# Altium schematic symbol library ICs.SchLib: 16 symbols
Pins are listed as number, name and electrical type; pins without a type are passive.

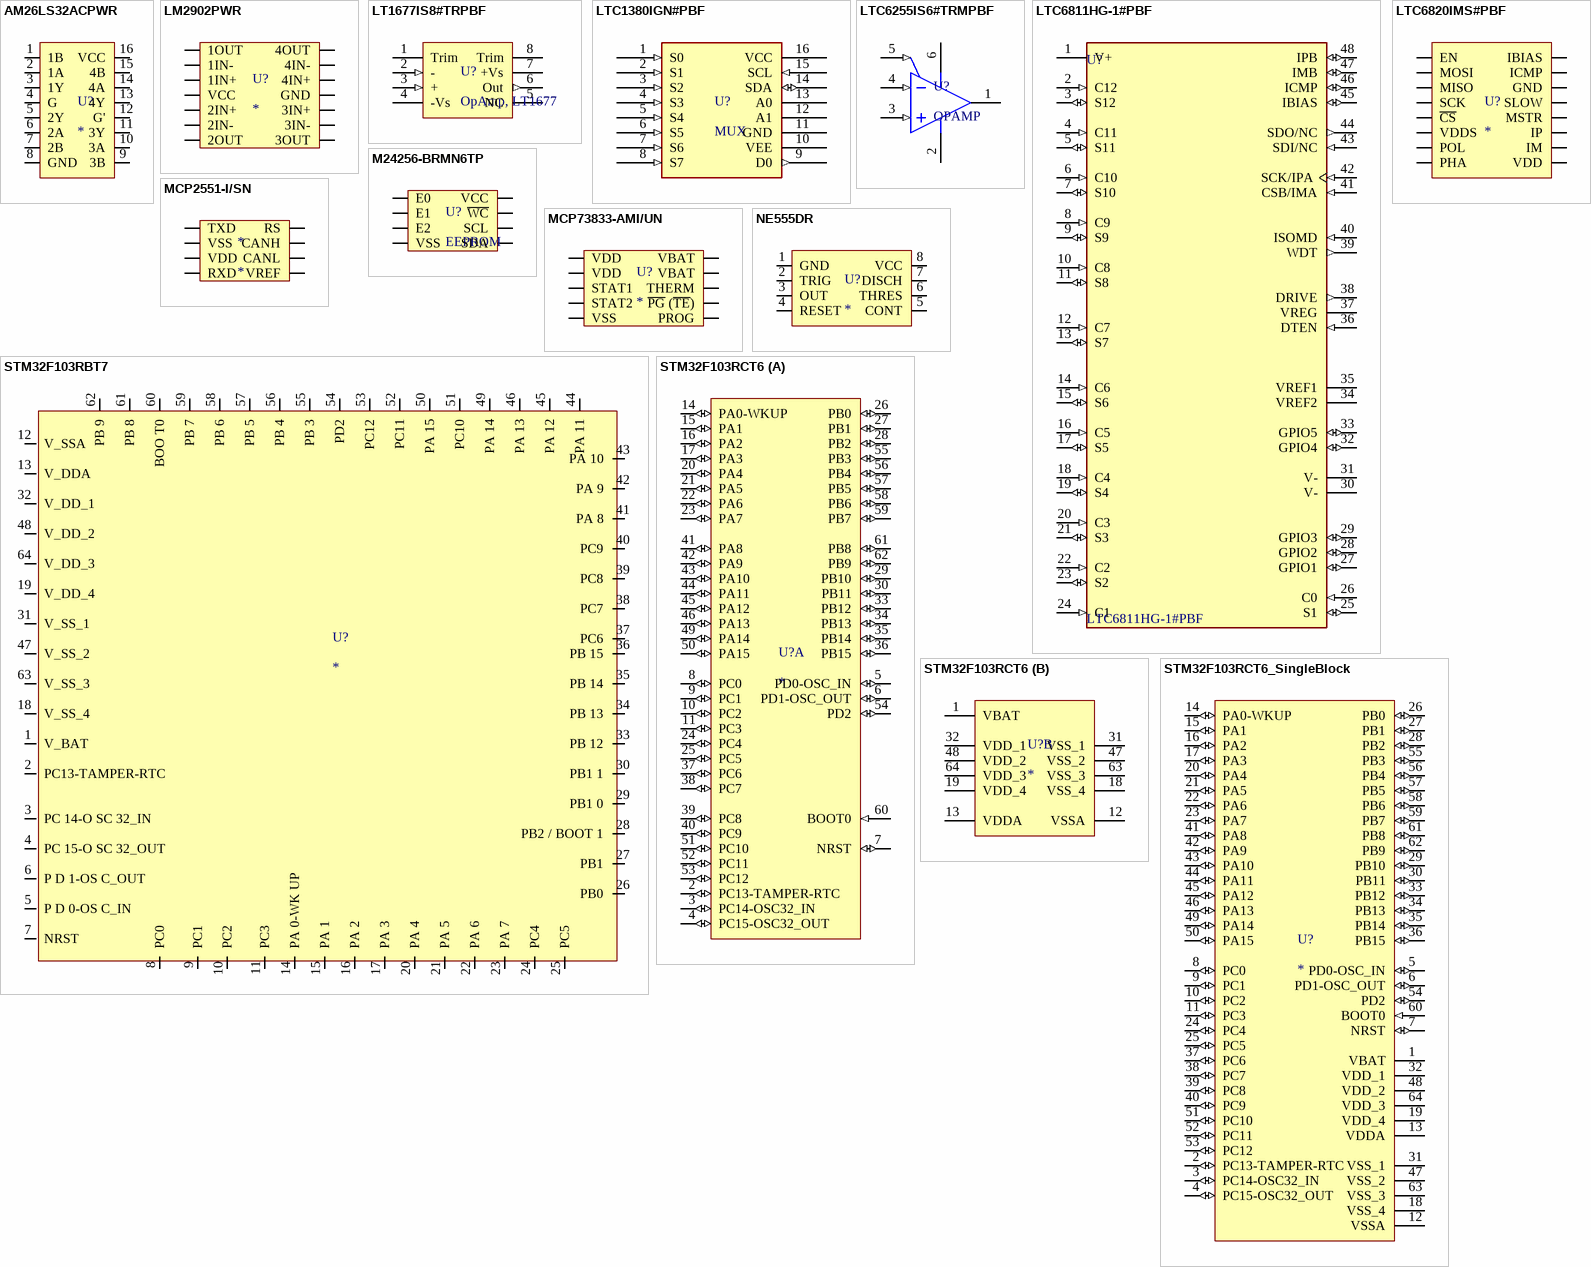
[diagram p0: symbols AM26LS32ACPWR to STM32F103RCT6_SingleBlock]

## AM26LS32ACPWR
designator U?
IC QUAD DIFF LINE RCVR 16-TSSOP; Manufacturer: Texas Instruments; Manufacturer Part Number: AM26LS32ACPWR; Max Supply Current: 70mA; Logic Function: Receiver; ESD Protection: No; Operating Supply Voltage: 5V; Number of Receivers: 4; Data Rate: 10Mbps; Min Supply Voltage: 4.75V; Max Supply Voltage: 5.25V; Receiver Hysteresis: 50mV; Supplier 1: Digi-Key; Supplier Part Number 1: 296-38861-1-ND; RoHS: Yes; Category: RS-232 / RS-422 / RS-485 Interface ICs; Stock 1: 1637; Case/Package: TSSOP; Number of Pins: 16; Weight: 0.002183oz; Contact Plating: Gold; Min Operating Temperature: 0°C; Max Operating Temperature: 70°C; Packaging: Tape and Reel; Package Quantity: 2000; Operating Supply Current: 70mA; Nominal Supply Current: 70mA; Lead Free: Lead Free; ComponentLink1URL: https://datasheet.ciiva.com/1769/am26ls32a-1769923.pdf?src-supplier=Digi-Key; ComponentLink1Description: https://datasheet.ciiva.com/1769/am26ls32a-1769923.pdf?src-supplier=Digi-Key; ComponentLink2URL: https://datasheet.ciiva.com/14426/slls115e-14426506.pdf?src-supplier=Avnet; ComponentLink2Description: https://datasheet.ciiva.com/14426/slls115e-14426506.pdf?src-supplier=Avnet
footprint TSSOP-16
pins: 1 1B, 2 1A, 3 1Y, 4 G, 5 2Y, 6 2A, 7 2B, 8 GND, 9 3B, 10 3A, 11 3Y, 12 G', 13 4Y, 14 4A, 15 4B, 16 VCC

## LM2902PWR
designator U?
LM2902PWR Texas Instruments, Precision, Quad Op Amp, 1.2MHz, 5 ? 24 V, 14-Pin TSSOP; Output Current per Channel: 60mA; Slew Rate: 0.5V/µs; Max Supply Voltage: 26V; Min Dual Supply Voltage: 1.5V; Max Dual Supply Voltage: 13V; Voltage Gain: 100dB; Common Mode Rejection Ratio: 50dB; Number of Circuits: 4; Input Bias Current: 250nA; Input Offset Voltage (Vos): 7mV; Operating Supply Current: 1.4mA; Min Supply Voltage: 3V; Output Current: 30mA; Nominal Supply Current: 3mA; Dual Supply Voltage: 9V; Supplier 1: Digi-Key; Supplier Part Number 1: 296-6600-1-ND; Manufacturer: Texas Instruments; Manufacturer Part Number: LM2902PWR; RoHS: Yes; Category: Amplifiers - Op Amps, Buffer, Instrumentation; Stock 1: 11279; Mount: Surface Mount; Case/Package: TSSOP; Number of Pins: 14; Min Operating Temperature: -40°C; Max Operating Temperature: 125°C; Package Quantity: 1; Packaging: Tape and Reel; Gain Bandwidth Product: 1.2MHz; Number of Elements: 4; Unity Gain Bandwidth Product: 1.2MHz; Number of Channels: 4; Operating Supply Voltage: 13V; Bandwidth: 1.2MHz; Number of Amplifiers: 4; Length: 5mm; Height: 1.15mm; Width: 4.4mm; Radiation Hardening: No; Lead Free: Lead Free; REACH SVHC: No SVHC; ComponentLink1URL: https://datasheet.ciiva.com/1795/lm324-1795520.pdf?src-supplier=Digi-Key; ComponentLink1Description: https://datasheet.ciiva.com/1795/lm324-1795520.pdf?src-supplier=Digi-Key; ComponentLink2URL: https://datasheet.ciiva.com/15129/getdatasheetpartid-49902-15129968.pdf?src-supplier=Verical; ComponentLink2Description: https://datasheet.ciiva.com/15129/getdatasheetpartid-49902-15129968.pdf?src-supplier=Verical; ComponentLink3URL: https://datasheet.ciiva.com/34302/1343700-34302236.pdf?src-supplier=Jameco; ComponentLink3Description: https://datasheet.ciiva.com/34302/1343700-34302236.pdf?src-supplier=Jameco; ComponentLink4URL: https://datasheet.ciiva.com/2974/lm324ka-2974976.pdf?src-supplier=Avnet; ComponentLink4Description: https://datasheet.ciiva.com/2974/lm324ka-2974976.pdf?src-supplier=Avnet; ComponentLink5URL: https://datasheet.ciiva.com/1795/lm224-1795585.pdf?src-supplier=Digi-Key; ComponentLink5Description: https://datasheet.ciiva.com/1795/lm224-1795585.pdf?src-supplier=Digi-Key; ComponentLink6URL: https://datasheet.ciiva.com/22657/1877076-22657189.pdf?src-supplier=Element14; ComponentLink6Description: https://datasheet.ciiva.com/22657/1877076-22657189.pdf?src-supplier=Element14; ComponentLink7URL: https://datasheet.ciiva.com/46382/1877076-46382413.pdf?src-supplier=Element14; ComponentLink7Description: https://datasheet.ciiva.com/46382/1877076-46382413.pdf?src-supplier=Element14; ComponentLink8URL: https://datasheet.ciiva.com/1795/lm224-1795583.pdf?src-supplier=Digi-Key; ComponentLink8Description: https://datasheet.ciiva.com/1795/lm224-1795583.pdf?src-supplier=Digi-Key
footprint TSSOP-14
pins: 1 1OUT, 2 1IN-, 3 1IN+, 4 VCC, 5 2IN+, 6 2IN-, 7 2OUT, 8 3OUT, 9 3IN-, 10 3IN+, 11 GND, 12 4IN+, 13 4IN-, 14 4OUT

## LT1677IS8#TRPBF
designator U?, comment OpAmp, LT1677
IC OPAMP GP 7.2MHZ RRO 8SO; Manufacturer: Analog Devices / Linear Technology; Manufacturer Part Number: LT1677IS8#TRPBF; Common Mode Rejection Ratio: 60dB; Min Dual Supply Voltage: 1.5V; Max Dual Supply Voltage: 18V; Slew Rate: 2.5V/µs; Max Supply Voltage: 44V; Min Supply Voltage: 2.5V; Number of Circuits: 1; Input Bias Current: 2nA; Input Offset Voltage (Vos): 60uV; Operating Supply Current: 2.75mA; Output Current per Channel: 35mA; Voltage Gain: 133.98dB; Power Supply Rejection Ratio (PSRR): 108dB; Supplier 1: Digi-Key; Supplier Part Number 1: LT1677IS8#TRPBFCT-ND; Stock 1: 4539; Pricing 1: 1 = 5.74000, 25 = 5.12560 (USD); RoHS: Yes; Case/Package: SOIC; Number of Pins: 8; Min Operating Temperature: -40°C; Max Operating Temperature: 85°C; Package Quantity: 2500; Unity Gain Bandwidth Product: 7.2MHz; Nominal Gain Bandwidth Product: 7.2MHz; Packaging: Tape and Reel; Gain Bandwidth Product: 7.2MHz; Number of Elements: 1; Number of Channels: 1; Lead Free: Lead Free; ComponentLink1URL: http://www.linear.com/docs/2102?src-supplier=Digi-Key; ComponentLink1Description: http://www.linear.com/docs/2102?src-supplier=Digi-Key; ComponentLink2URL: http://datasheet.iiic.cc/linear_technology/LT1677IS8_TRPBF.pdf?src-supplier=IIIC; ComponentLink2Description: http://datasheet.iiic.cc/linear_technology/LT1677IS8_TRPBF.pdf?src-supplier=IIIC; Category: Integrated Circuits (ICs)
footprint LT1677IS8#TRPBF (IC OPAMP GP 7.2MHZ RRO 8SO)
pins: 1 Trim, 2 - (in), 3 + (in), 4 -Vs (power), 5 NC, 6 Out (out), 7 +Vs (power), 8 Trim

## LTC1380IGN#PBF
designator U?, comment MUX
IC MULTIPLEXER 8X1 16SSOP 1 Circuit IC Switch 8:1 70Ohm 16-SSOP; Manufacturer_Part_Number: LTC1380IGN#PBF; Vendor: Linear Technology; Built_By: EMA_UL_Team; Copyright: Copyright (C) 2018 Accelerated Designs. All rights reserved; RefDes: RefDes; Type: DEV; Value: Value
footprint SSOP-16_GN
pins: 1 S0 (in), 2 S1 (in), 3 S2 (in), 4 S3 (in), 5 S4 (in), 6 S5 (in), 7 S6 (in), 8 S7 (in), 9 D0 (out), 10 VEE (power), 11 GND (power), 12 A1, 13 A0, 14 SDA (io), 15 SCL (in), 16 VCC (power)

## LTC6255IS6#TRMPBF
designator U?, comment OPAMP
IC OPAMP GP 6.5MHZ RRO TSOT23-6; Manufacturer: Analog Devices / Linear Technology; Manufacturer Part Number: LTC6255IS6#TRMPBF; Input Offset Voltage (Vos): 100uV; Max Supply Voltage: 5.25V; Min Supply Voltage: 1.8V; Number of Channels: 1; Operating Supply Current: 65uA; Slew Rate: 1.8V/µs; Input Bias Current: 5nA; Output Current per Channel: 35mA; Power Supply Rejection Ratio (PSRR): 82dB; Common Mode Rejection Ratio: 75dB; Voltage Gain: 106.02dB; -3db Bandwidth: 4.5MHz; Supplier 1: Digi-Key; Supplier Part Number 1: LTC6255IS6#TRMPBFCT-ND; RoHS: Yes; Category: Amplifiers - Op Amps, Buffer, Instrumentation; Stock 1: 9151; Case/Package: SOT-23-6; Number of Pins: 6; Min Operating Temperature: -40°C; Max Operating Temperature: 85°C; Packaging: Tape and Reel; Number of Circuits: 1; Gain Bandwidth Product: 6.5MHz; Package Quantity: 500; Number of Elements: 1; Nominal Gain Bandwidth Product: 6.5MHz; Unity Gain Bandwidth Product: 6.5MHz; Lead Free: Lead Free; ComponentLink1URL: https://datasheet.ciiva.com/18622/29492-18622463.pdf?src-supplier=Digi-Key; ComponentLink1Description: https://datasheet.ciiva.com/18622/29492-18622463.pdf?src-supplier=Digi-Key
footprint TSOT23-6
pins: 1 OUT (hiz), 2 V- (power), 3 +IN (in), 4 -IN (in), 5 ~{SHDN} (in), 6 V+ (power)

## LTC6811HG-1#PBF
designator U?
Battery Battery Monitor IC Multi-Chemistry 48-SSOP; MF: Linear Technology/Analog; Package: FSOP-48 Analog Devices; Digi-Key_Part_Number: LTC6811HG-1#PBF-ND; MP: LTC6811HG-1#PBF; SnapEDA_Link: https://www.snapeda.com/parts/LTC6811HG-1%23PBF/Analog%20Devices/view-part/2761924/?ref=snap; Digi-Key_Purchase_URL: https://www.digikey.com/product-detail/en/linear-technology-analog-devices/LTC6811HG-1-PBF/LTC6811HG-1-PBF-ND/6235369?utm_source=snapeda&utm_medium=aggregator&utm_campaign=symbol; Value: *
footprint 48-SSOP
pins: 1 V+ (power), 2 C12 (in), 3 S12 (io), 4 C11 (in), 5 S11 (io), 6 C10 (in), 7 S10 (io), 8 C9 (in), 9 S9 (io), 10 C8 (in), 11 S8 (io), 12 C7 (in), 13 S7 (io), 14 C6 (in), 15 S6 (io), 16 C5 (in), 17 S5 (io), 18 C4 (in), 19 S4 (io), 20 C3 (in), 21 S3 (io), 22 C2 (in), 23 S2 (io), 24 C1 (in), 25 S1 (io), 26 C0 (in), 27 GPIO1 (io), 28 GPIO2 (io), 29 GPIO3 (io), 30 V- (power), 31 V- (power), 32 GPIO4 (io), 33 GPIO5 (io), 34 VREF2 (power), 35 VREF1 (power), 36 DTEN (in), 37 VREG (power), 38 DRIVE (out), 39 WDT (out), 40 ISOMD (in), 41 CSB/IMA (in), 42 SCK/IPA (in), 43 SDI/NC (in), 44 SDO/NC (out), 45 IBIAS (io), 46 ICMP (io), 47 IMB (io), 48 IPB (io)

## LTC6820IMS#PBF
designator U?
IC COMM INTERFACE ISOSPI 16MSOP
footprint 16-MSOP
pins: 1 EN, 2 MOSI, 3 MISO, 4 SCK, 5 ~{CS}, 6 VDDS, 7 POL, 8 PHA, 9 VDD, 10 IM, 11 IP, 12 MSTR, 13 SLOW, 14 GND, 15 ICMP, 16 IBIAS

## M24256-BRMN6TP
designator U?, comment EEPROM
EEPROM Serial-I2C 256K-bit 32K x 8 2.5V/3.3V/5V 8-Pin SO N T/R
footprint 8-SOIC
pins: 1 E0, 2 E1, 3 E2, 4 VSS, 5 SDA, 6 SCL, 7 ~{WC}, 8 VCC

## MCP2551-I/SN
designator *
CAN TRANSCEIVER; Manufacturer: Microchip; Manufacturer Part Number: MCP2551-I/SN; Body Material: Steel; Number of Contacts: 9; Current Rating: 5A; Gender: Male; Connector Type: D-Sub,Plug,Signal; Voltage Rating: 125V; Pitch: 2.84mm; Max Supply Voltage: 5.5V; Min Supply Voltage: 2.7V; Interface: SPI; Max Frequency: 400kHz; Access Time: 900ns; Density: 256Kb; Operating Supply Voltage: 5V; Frequency: 1MHz; Nominal Supply Current: 2.5mA; Memory Type: EEPROM; Contact Resistance: 10mR; Voltage Rating (AC): 250V; Number of Circuits: 2; Insulation Resistance: 1GR; Glow Wire Compliant: Compliant; Row Spacing: 0.1inch; Frequency Stability: 30ppm; Load Capacitance: 18pF; ESR (Equivalent Series Resistance): 140R; Frequency Tolerance: 20ppm; Series Resistance: 500R; Supplier 1: Digi-Key; Supplier Part Number 1: MCP2551-I/SN-ND; RoHS: Yes; Category: Interface ICs; Stock 1: 3363; ComponentLink1URL: https://datasheet.ciiva.com/8084/jp011797-8084592.pdf?src-supplier=Avnet; ComponentLink1Description: https://datasheet.ciiva.com/8084/jp011797-8084592.pdf?src-supplier=Avnet; ComponentLink2URL: https://datasheet.ciiva.com/27056/2040583-27056423.pdf?src-supplier=Jameco; ComponentLink2Description: https://datasheet.ciiva.com/27056/2040583-27056423.pdf?src-supplier=Jameco; ComponentLink3URL: https://datasheet.ciiva.com/1495/21667f-1495089.pdf?src-supplier=Element14; ComponentLink3Description: https://datasheet.ciiva.com/1495/21667f-1495089.pdf?src-supplier=Element14; ComponentLink4URL: https://datasheet.ciiva.com/1700/21667f-1700023.pdf?src-supplier=Digi-Key; ComponentLink4Description: https://datasheet.ciiva.com/1700/21667f-1700023.pdf?src-supplier=Digi-Key; ComponentLink5URL: https://datasheet.ciiva.com/14152/eb644223-644224-e-14152540.pdf?src-supplier=Distrelec; ComponentLink5Description: https://datasheet.ciiva.com/14152/eb644223-644224-e-14152540.pdf?src-supplier=Distrelec; ComponentLink6URL: https://datasheet.ciiva.com/17649/jp011797-17649039.pdf?src-supplier=Avnet+Europe; ComponentLink6Description: https://datasheet.ciiva.com/17649/jp011797-17649039.pdf?src-supplier=Avnet+Europe; Supplier 2: Digi-Key; Supplier Part Number 2: 9209ME-ND; Stock 2: 10320; Mount: Through Hole; Contact Plating: Gold; Contact Material: Brass; Housing Material: Nylon; Color: Black; Material: Metal; Housing Color: Black; Min Operating Temperature: -50°C; Max Operating Temperature: 100°C; Package Quantity: 80; Packaging: Tray; Termination: Through Hole; Number of Rows: 2; Number of Positions: 9; Length: 30.8mm; Height: 9.93mm; Width: 12.6mm; REACH SVHC: No SVHC; Lead Free: Lead Free; Flammability Rating: UL94 V-0; ComponentLink7URL: https://datasheet.ciiva.com/655/171-yyy-113ryy1-655574.pdf?src-supplier=Digi-Key; ComponentLink7Description: https://datasheet.ciiva.com/655/171-yyy-113ryy1-655574.pdf?src-supplier=Digi-Key; ComponentLink8URL: https://datasheet.ciiva.com/5118/171-yyy-113ryy1-5118968.pdf?src-supplier=Mouser; ComponentLink8Description: https://datasheet.ciiva.com/5118/171-yyy-113ryy1-5118968.pdf?src-supplier=Mouser; ComponentLink9URL: https://datasheet.ciiva.com/16376/171-yyy-113ryy1-16376504.pdf?src-supplier=Future+Electronics; ComponentLink9Description: https://datasheet.ciiva.com/16376/171-yyy-113ryy1-16376504.pdf?src-supplier=Future+Electronics; Supplier 3: Digi-Key; Supplier Part Number 3: 732-618009231121-ND; Stock 3: 281; Orientation: Right Angle; Depth: 18.5mm; ComponentLink10URL: https://datasheet.ciiva.com/12669/6180xx231121-12669218.pdf?src-supplier=Mouser; ComponentLink10Description: https://datasheet.ciiva.com/12669/6180xx231121-12669218.pdf?src-supplier=Mouser; ComponentLink11URL: https://datasheet.ciiva.com/1426/1442189-1426428.pdf?src-supplier=Element14; ComponentLink11Description: https://datasheet.ciiva.com/1426/1442189-1426428.pdf?src-supplier=Element14; Supplier 4: Digi-Key; Supplier Part Number 4: 732-618009231221-ND; Stock 4: 49; ComponentLink12URL: https://datasheet.ciiva.com/12669/6180xx231221-12669204.pdf?src-supplier=Mouser; ComponentLink12Description: https://datasheet.ciiva.com/12669/6180xx231221-12669204.pdf?src-supplier=Mouser; ComponentLink13URL: https://datasheet.ciiva.com/25605/0900766b81191766-25605476.pdf?src-supplier=RSComponents; ComponentLink13Description: https://datasheet.ciiva.com/25605/0900766b81191766-25605476.pdf?src-supplier=RSComponents; ComponentLink14URL: https://datasheet.ciiva.com/1426/1442191-1426429.pdf?src-supplier=Element14; ComponentLink14Description: https://datasheet.ciiva.com/1426/1442191-1426429.pdf?src-supplier=Element14; Supplier 5: Digi-Key; Supplier Part Number 5: LTC6820IMS#PBF-ND; Stock 5: 4671; Case/Package: MSOP; Number of Pins: 16; ComponentLink15URL: https://datasheet.ciiva.com/22649/1730562-22649446.pdf?src-supplier=Element14; ComponentLink15Description: https://datasheet.ciiva.com/22649/1730562-22649446.pdf?src-supplier=Element14; ComponentLink16URL: https://datasheet.ciiva.com/22767/1730562-22767677.pdf?src-supplier=Farnell; ComponentLink16Description: https://datasheet.ciiva.com/22767/1730562-22767677.pdf?src-supplier=Farnell; Supplier 6: Digi-Key; Supplier Part Number 6: 497-6348-1-ND; Stock 6: 4627; Memory Size: 256Kb; Radiation Hardening: No; ComponentLink17URL: https://datasheet.ciiva.com/15123/getdatasheetpartid-309492-15123357.pdf?src-supplier=Verical; ComponentLink17Description: https://datasheet.ciiva.com/15123/getdatasheetpartid-309492-15123357.pdf?src-supplier=Verical; ComponentLink18URL: https://datasheet.ciiva.com/41455/001185584-da-01-en-ic-eepr-256kbi-m24256-brmn6tp-soic-8-stm-41455201.pdf?src-supplier=Conrad; ComponentLink18Description: https://datasheet.ciiva.com/41455/001185584-da-01-en-ic-eepr-256kbi-m24256-brmn6tp-soic-8-stm-41455201.pdf?src-supplier=Conrad; ComponentLink19URL: https://datasheet.ciiva.com/1905/cd00001891-1905179.pdf?src-supplier=Digi-Key; ComponentLink19Description: https://datasheet.ciiva.com/1905/cd00001891-1905179.pdf?src-supplier=Digi-Key; ComponentLink20URL: https://datasheet.ciiva.com/1905/cd00001891-1905180.pdf?src-supplier=Digi-Key; ComponentLink20Description: https://datasheet.ciiva.com/1905/cd00001891-1905180.pdf?src-supplier=Digi-Key; ComponentLink21URL: https://datasheet.ciiva.com/1905/cd00001891-1905181.pdf?src-supplier=Digi-Key; ComponentLink21Description: https://datasheet.ciiva.com/1905/cd00001891-1905181.pdf?src-supplier=Digi-Key; Supplier 7: Digi-Key; Supplier Part Number 7: WM1860-ND; Stock 7: 11258; Working Voltage: 250V; Voltage Rating (DC): 250V; Halogen Free: Low Halogen; ComponentLink22URL: https://datasheet.ciiva.com/14155/04402066-14155224.pdf?src-supplier=Distrelec; ComponentLink22Description: https://datasheet.ciiva.com/14155/04402066-14155224.pdf?src-supplier=Distrelec; ComponentLink23URL: https://datasheet.ciiva.com/5158/0436500200-pcb-headers-148844-5158523.pdf?src-supplier=Mouser; ComponentLink23Description: https://datasheet.ciiva.com/5158/0436500200-pcb-headers-148844-5158523.pdf?src-supplier=Mouser; ComponentLink24URL: https://datasheet.ciiva.com/11748/0900766b80d6135b-11748140.pdf?src-supplier=RSComponents; ComponentLink24Description: https://datasheet.ciiva.com/11748/0900766b80d6135b-11748140.pdf?src-supplier=RSComponents; ComponentLink25URL: https://datasheet.ciiva.com/22683/1709823-22683551.pdf?src-supplier=Element14; ComponentLink25Description: https://datasheet.ciiva.com/22683/1709823-22683551.pdf?src-supplier=Element14; ComponentLink26URL: https://datasheet.ciiva.com/30161/48630436500200-pcb-headers-30161343.pdf?src-supplier=Onlinecomponents.com; ComponentLink26Description: https://datasheet.ciiva.com/30161/48630436500200-pcb-headers-30161343.pdf?src-supplier=Onlinecomponents.com; ComponentLink27URL: https://datasheet.ciiva.com/9432/0436500200-pcb-headers-9432849.pdf?src-supplier=Avnet; ComponentLink27Description: https://datasheet.ciiva.com/9432/0436500200-pcb-headers-9432849.pdf?src-supplier=Avnet; ComponentLink28URL: https://datasheet.ciiva.com/16089/1029720436500200-pcb-headers-16089218.pdf?src-supplier=Onlinecomponents.com; ComponentLink28Description: https://datasheet.ciiva.com/16089/1029720436500200-pcb-headers-16089218.pdf?src-supplier=Onlinecomponents.com; ComponentLink29URL: https://datasheet.ciiva.com/7920/1839562-7920756.pdf?src-supplier=Element14; ComponentLink29Description: https://datasheet.ciiva.com/7920/1839562-7920756.pdf?src-supplier=Element14; ComponentLink30URL: https://datasheet.ciiva.com/19462/884053-19462312.pdf?src-supplier=Jameco; ComponentLink30Description: https://datasheet.ciiva.com/19462/884053-19462312.pdf?src-supplier=Jameco; ComponentLink31URL: https://datasheet.ciiva.com/16654/0436500200-pcb-headers-16654958.pdf?src-supplier=Avnet+Europe; ComponentLink31Description: https://datasheet.ciiva.com/16654/0436500200-pcb-headers-16654958.pdf?src-supplier=Avnet+Europe; Supplier 8: Digi-Key; Supplier Part Number 8: 1175-1623-ND; Stock 8: 21730; ComponentLink32URL: https://datasheet.ciiva.com/6904/3020-34-0300-00-6904731.pdf?src-supplier=Digi-Key; ComponentLink32Description: https://datasheet.ciiva.com/6904/3020-34-0300-00-6904731.pdf?src-supplier=Digi-Key; ComponentLink33URL: https://datasheet.ciiva.com/18485/3020-xx-0300-00-18485471.pdf?src-supplier=Digi-Key; ComponentLink33Description: https://datasheet.ciiva.com/18485/3020-xx-0300-00-18485471.pdf?src-supplier=Digi-Key; Supplier 9: Digi-Key; Supplier Part Number 9: 535-10630-1-ND; Stock 9: 68218; Composition: Ceramic; Tolerance: 20ppm; ComponentLink34URL: https://datasheet.ciiva.com/862/abm3-862465.pdf?src-supplier=Digi-Key; ComponentLink34Description: https://datasheet.ciiva.com/862/abm3-862465.pdf?src-supplier=Digi-Key; Supplier 10: Digi-Key; Supplier Part Number 10: 535-9544-1-ND; Stock 10: 100673; ComponentLink35URL: https://datasheet.ciiva.com/855/abs07-855948.pdf?src-supplier=Digi-Key; ComponentLink35Description: https://datasheet.ciiva.com/855/abs07-855948.pdf?src-supplier=Digi-Key
footprint 8-SOIC
pins: 1 TXD, 2 VSS, 3 VDD, 4 RXD, 5 VREF, 6 CANL, 7 CANH, 8 RS

## MCP73833-AMI/UN
designator U?
IC LI-ION/LI-POLY CTRLR 10MSOP; Manufacturer: Microchip; Manufacturer Part Number: MCP73833-AMI/UN; Supplier 1: Digi-Key; Supplier Part Number 1: MCP73833-AMI/UN-ND; RoHS: Yes; Category: Battery Management; Stock 1: 8317; ComponentLink1URL: https://datasheet.ciiva.com/1144/1669398-1144512.pdf?src-supplier=Newark; ComponentLink1Description: https://datasheet.ciiva.com/1144/1669398-1144512.pdf?src-supplier=Newark; ComponentLink2URL: https://datasheet.ciiva.com/16298/filehandler-aspxddocname-en027983-16298400.pdf?src-supplier=Future+Electronics; ComponentLink2Description: https://datasheet.ciiva.com/16298/filehandler-aspxddocname-en027983-16298400.pdf?src-supplier=Future+Electronics; ComponentLink3URL: https://datasheet.ciiva.com/1933/22005b-1933560.pdf?src-supplier=Digi-Key; ComponentLink3Description: https://datasheet.ciiva.com/1933/22005b-1933560.pdf?src-supplier=Digi-Key; ComponentLink4URL: https://datasheet.ciiva.com/41463/001085503-da-01-en-ic-li-ion-li-mcp73833-ami-un-msop-10-mcp-41463191.pdf?src-supplier=Conrad; ComponentLink4Description: https://datasheet.ciiva.com/41463/001085503-da-01-en-ic-li-ion-li-mcp73833-ami-un-msop-10-mcp-41463191.pdf?src-supplier=Conrad
footprint MSOP-10
pins: 1 VDD, 2 VDD, 3 STAT1, 4 STAT2, 5 VSS, 6 PROG, 7 ~{PG} (~{TE}), 8 THERM, 9 VBAT, 10 VBAT

## NE555DR
designator U?
TEXAS INSTRUMENTS         NE555DR.             TIMER, SINGLE, 500KHZ, 16V, SOIC-8; High Level Output Current: -200mA; Low Level Output Current: 200mA; Quiescent Current: 15mA; Number of Timers/Counters: 1; Operating Supply Current: 10mA; Min Supply Voltage: 4.5V; Frequency: 100kHz; Supplier 1: Digi-Key; Supplier Part Number 1: 296-6501-1-ND; Manufacturer: Texas Instruments; Manufacturer Part Number: NE555DR; RoHS: Yes; Category: Timers and Oscillators; Stock 1: 13672; Mount: Surface Mount; Case/Package: SOIC; Number of Pins: 8; Weight: 0.002561oz; Contact Plating: Gold; Min Operating Temperature: 0°C; Max Operating Temperature: 70°C; Max Supply Voltage: 16V; Packaging: Tape and Reel; Package Quantity: 2500; Length: 4.9mm; Height: 1.58mm; Width: 3.91mm; Radiation Hardening: No; Lead Free: Lead Free; REACH SVHC: No SVHC; ComponentLink1URL: https://datasheet.ciiva.com/26251/se555m-26251288.pdf?src-supplier=Avnet+Europe; ComponentLink1Description: https://datasheet.ciiva.com/26251/se555m-26251288.pdf?src-supplier=Avnet+Europe; ComponentLink2URL: https://datasheet.ciiva.com/16465/se555m-16465210.pdf?src-supplier=Avnet+Asia; ComponentLink2Description: https://datasheet.ciiva.com/16465/se555m-16465210.pdf?src-supplier=Avnet+Asia; ComponentLink3URL: https://datasheet.ciiva.com/46395/1874740-46395978.pdf?src-supplier=Element14; ComponentLink3Description: https://datasheet.ciiva.com/46395/1874740-46395978.pdf?src-supplier=Element14; ComponentLink4URL: https://datasheet.ciiva.com/1233/ne555-1233132.pdf?src-supplier=Digi-Key; ComponentLink4Description: https://datasheet.ciiva.com/1233/ne555-1233132.pdf?src-supplier=Digi-Key; ComponentLink5URL: https://datasheet.ciiva.com/1233/ne555-1233131.pdf?src-supplier=Digi-Key; ComponentLink5Description: https://datasheet.ciiva.com/1233/ne555-1233131.pdf?src-supplier=Digi-Key; ComponentLink6URL: https://datasheet.ciiva.com/1139/1874740-1139901.pdf?src-supplier=Element14; ComponentLink6Description: https://datasheet.ciiva.com/1139/1874740-1139901.pdf?src-supplier=Element14; ComponentLink7URL: https://datasheet.ciiva.com/1233/ne555-1233133.pdf?src-supplier=Digi-Key; ComponentLink7Description: https://datasheet.ciiva.com/1233/ne555-1233133.pdf?src-supplier=Digi-Key
footprint 8-SOIC
pins: 1 GND, 2 TRIG, 3 OUT, 4 RESET, 5 CONT, 6 THRES, 7 DISCH, 8 VCC

## STM32F103RBT7
designator U?
MCU 32-bit STM32F1 ARM Cortex M3 RISC 128KB Flash 2.5V/3.3V 64-Pin LQFP Tray; Manufacturer 1: STMicroelectronics; Manufacturer Part Number 1: STM32F103RBT7; Interface: I2C,SPI,USB,CAN,IrDA,UART,USART,LIN; Data Bus Width: 32b; RAM Size: 20KB; Max Power Dissipation: 444mW; Number of I/Os: 51; Number of Timers/Counters: 4; Frequency: 72MHz; Max Supply Voltage: 3.6V; Min Supply Voltage: 2V; Oscillator Type: Internal; Watchdog Timer: Yes; Peripherals: POR,PWM,WDT,DMA,Temp Sensor; Number of ADC Channels: 16; Number of SPI Channels: 2; Supplier 1: Digi-Key; Stock 1: 1368; Pricing 1: 1=6.30000, 10=5.65500, 100=4.63300, 500=3.94400, 1000=3.32626 (USD); RoHS: Yes; Case/Package: LQFP; Number of Pins: 64; Min Operating Temperature: -40°C; Max Operating Temperature: 105°C; Core Architecture: ARM; Package Quantity: 160; Packaging: Tray; Number of Programmable I/O: 51; Max Frequency: 72MHz; Memory Type: FLASH; Memory Size: 128KB; Number of I2C Channels: 2; Length: 10mm; Height: 1.45mm; Width: 10mm; Radiation Hardening: No; REACH SVHC: No SVHC; ComponentLink1URL: https://media.digikey.com/pdf/Data%20Sheets/ST%20Microelectronics%20PDFS/STM32F103x8,B.pdf?src-supplier=Digi-Key; ComponentLink1Description: https://media.digikey.com/pdf/Data%20Sheets/ST%20Microelectronics%20PDFS/STM32F103x8,B.pdf?src-supplier=Digi-Key; ComponentLink2URL: http://www.mouser.com/ds/2/389/stm32f103c8-956229.pdf?src-supplier=Mouser; ComponentLink2Description: http://www.mouser.com/ds/2/389/stm32f103c8-956229.pdf?src-supplier=Mouser; ComponentLink3URL: http://www.farnell.com/datasheets/1963088.pdf?src-supplier=Farnell; ComponentLink3Description: http://www.farnell.com/datasheets/1963088.pdf?src-supplier=Farnell; ComponentLink4URL: http://uk.rs-online.com/webdocs/0ed0/0900766b80ed015c.pdf?src-supplier=RSComponents; ComponentLink4Description: http://uk.rs-online.com/webdocs/0ed0/0900766b80ed015c.pdf?src-supplier=RSComponents; ComponentLink5URL: http://components.arrow.com/part/dataview/0323_00214153?src-supplier=Arrow+Europe; ComponentLink5Description: http://components.arrow.com/part/dataview/0323_00214153?src-supplier=Arrow+Europe; ComponentLink6URL: http://www.produktinfo.conrad.com/datenblaetter/1000000-1099999/001075570-da-01-en-MCU_32BT_64K_STM32F103RBT7_LQFP_64_STM.pdf?src-supplier=Conrad; ComponentLink6Description: http://www.produktinfo.conrad.com/datenblaetter/1000000-1099999/001075570-da-01-en-MCU_32BT_64K_STM32F103RBT7_LQFP_64_STM.pdf?src-supplier=Conrad; ComponentLink7URL: http://www.farnell.com/datasheets/1963088.pdf?src-supplier=Newark; ComponentLink7Description: http://www.farnell.com/datasheets/1963088.pdf?src-supplier=Newark; ComponentLink8URL: http://www.st.com/web/en/resource/technical/document/datasheet/CD00161566.pdf?src-supplier=Element14; ComponentLink8Description: http://www.st.com/web/en/resource/technical/document/datasheet/CD00161566.pdf?src-supplier=Element14; ComponentLink9URL: http://www.st.com/internet/com/TECHNICAL_RESOURCES/TECHNICAL_LITERATURE/DATASHEET/CD00161566.pdf?src-supplier=Avnet; ComponentLink9Description: http://www.st.com/internet/com/TECHNICAL_RESOURCES/TECHNICAL_LITERATURE/DATASHEET/CD00161566.pdf?src-supplier=Avnet; ComponentLink10URL: http://components.arrow.com/part/dataview/45775055S8555844N7728?src-supplier=Arrow; ComponentLink10Description: http://components.arrow.com/part/dataview/45775055S8555844N7728?src-supplier=Arrow; Supplier Part Number 1: 497-11526-ND
footprint stm32f103rb
pins: 1 V_BAT (power), 2 PC13-TAMPER-RTC (io), 3 PC 14-O SC 32_IN (io), 4 PC 15-O SC 32_OUT (io), 5 P D 0-OS C_IN (in), 6 P D 1-OS C_OUT (out), 7 NRST (io), 8 PC0 (io), 9 PC1 (io), 10 PC2 (io), 11 PC3 (io), 12 V_SSA (power), 13 V_DDA (power), 14 PA 0-WK UP (io), 15 PA 1 (io), 16 PA 2 (io), 17 PA 3 (io), 18 V_SS_4 (power), 19 V_DD_4 (power), 20 PA 4 (io), 21 PA 5 (io), 22 PA 6 (io), 23 PA 7 (io), 24 PC4 (io), 25 PC5 (io), 26 PB0 (io), 27 PB1 (io), 28 PB2 / BOOT 1 (io), 29 PB1 0 (io), 30 PB1 1 (io), 31 V_SS_1 (power), 32 V_DD_1 (power), 33 PB 12 (io), 34 PB 13 (io), 35 PB 14 (io), 36 PB 15 (io), 37 PC6 (io), 38 PC7 (io), 39 PC8 (io), 40 PC9 (io), 41 PA 8 (io), 42 PA 9 (io), 43 PA 10 (io), 44 PA 11 (io), 45 PA 12 (io), 46 PA 13 (io), 47 V_SS_2 (power), 48 V_DD_2 (power), 49 PA 14 (io), 50 PA 15 (io), 51 PC10 (io), 52 PC11 (io), 53 PC12 (io), 54 PD2 (io), 55 PB 3 (io), 56 PB 4 (io), 57 PB 5 (io), 58 PB 6 (io), 59 PB 7 (io), 60 BOO T0 (io), 61 PB 8 (io), 62 PB 9 (io), 63 V_SS_3 (power), 64 V_DD_3 (power)

## STM32F103RCT6
designator U?
ARM® Cortex®-M3 STM32F1 Microcontroller IC 32-Bit 72MHz 256KB (256K x 8) FLASH; Supplier 1: Digi-Key; Supplier Part Number 1: 497-8920-ND
footprint 64-LQFP
part A pins: 2 PC13-TAMPER-RTC (io) "PC13-TAMPER-RTC/PC13/TAMPER-RTC", 3 PC14-OSC32_IN (io) "PC14-OSC32_IN/PC14/OSC32_IN", 4 PC15-OSC32_OUT (io) "PC15-OSC32_OUT/PC15/OSC32_OUT", 5 PD0-OSC_IN (io) "PD0/OSC_IN/CAN_RX", 6 PD1-OSC_OUT (io) "PD1/OSC_OUT/CAN_TX", 7 NRST (io), 8 PC0 (io) "PC0/ADC123_IN10", 9 PC1 (io) "PC1/ADC123_IN11", 10 PC2 (io) "PC2/ADC123_IN12", 11 PC3 (io) "PC3/ADC123_IN13", 14 PA0-WKUP (io) "PA0-WKUP/PA0/WKUP/USART2_CTS/ADC123_IN0/TIM2_CH1_ETR/TIM5_CH1/TIM8_ETR", 15 PA1 (io) "PA1/USART2_RTS/ADC123_IN1/TIM5_CH2/TIM2_CH2", 16 PA2 (io) "PA2/USART2_TX/TIM5_CH3/ADC123_IN2/TIM2_CH3", 17 PA3 (io) "PA3/USART2_RX/TIM5_CH4/ADC123_IN3/TIM2_CH4", 20 PA4 (io) "PA4/SPI1_NSS/USART2_CK/DAC_OUT1/ADC12_IN4", 21 PA5 (io) "PA5/SPI1_SCK/DAC_OUT2/ADC12_IN5", 22 PA6 (io) "PA6/SPI1_MISO/TIM8_BKIN/ADC12_IN6/TIM3_CH1/TIM1_BKIN", 23 PA7 (io) "PA7/SPI1_MOSI/TIM8_CH1N/ADC12_IN7/TIM3_CH2/TIM1_CH1N", 24 PC4 (io) "PC4/ADC12_IN14", 25 PC5 (io) "PC5/ADC12_IN15", 26 PB0 (io) "PB0/ADC12_IN8/TIM3_CH3/TIM8_CH2N/TIM1_CH2N", 27 PB1 (io) "PB1/ADC12_IN9/TIM3_CH4/TIM8_CH3N/TIM1_CH3N", 28 PB2 (io) "PB2/BOOT1", 29 PB10 (io) "PB10/I2C2_SCL/USART3_TX/TIM2_CH3", 30 PB11 (io) "PB11/I2C2_SDA/USART3_RX/TIM2_CH4", 33 PB12 (io) "PB12/SPI2_NSS/I2S2_WS/I2C2_SMBA/USART3_CK/TIM1_BKIN", 34 PB13 (io) "PB13/SPI2_SCK/I2S2_CK/USART3_CTS/TIM1_CH1N", 35 PB14 (io) "PB14/SPI2_MISO/TIM1_CH2N/USART3_RTS", 36 PB15 (io) "PB15/SPI2_MOSI/I2S2_SD/TIM1_CH3N", 37 PC6 (io) "PC6/I2S2_MCK/TIM8_CH1/SDIO_D6/TIM3_CH1", 38 PC7 (io) "PC7/I2S3_MCK/TIM8_CH2/SDIO_D7/TIM3_CH2", 39 PC8 (io) "PC8/TIM8_CH3/SDIO_D0/TIM3_CH3", 40 PC9 (io) "PC9/TIM8_CH4/SDIO_D1/TIM3_CH4", 41 PA8 (io) "PA8/USART1_CK/TIM1_CH1/MCO", 42 PA9 (io) "PA9/USART1_TX/TIM1_CH2", 43 PA10 (io) "PA10/USART1_RX/TIM1_CH3", 44 PA11 (io) "PA11/USART1_CTS/USBDM/CAN_RX/TIM1_CH4", 45 PA12 (io) "PA12/USART1_RTS/USBDP/CAN_TX/TIM1_ETR", 46 PA13 (io) "PA13/JTMS-SWDIO", 49 PA14 (io) "PA14/JTCK-SWCLK", 50 PA15 (io) "PA15/JTDI/SPI3_NSS/I2S3_WS/TIM2_CH1_ETR/SPI1_NSS", 51 PC10 (io) "PC10/UART4_TX/SDIO_D2/USART3_TX", 52 PC11 (io) "PC11/UART4_RX/SDIO_D3/USART3_RX", 53 PC12 (io) "PC12/UART5_TX/SDIO_CK/USART3_CK", 54 PD2 (io) "PD2/TIM3_ETR/UART5_RX/SDIO_CMD", 55 PB3 (io) "PB3/JTDO/SPI3_SCK/I2S3_CK/TRACESWO/TIM2_CH2/SPI1_SCK", 56 PB4 (io) "PB4/NJTRST/SPI3_MISO/TIM3_CH1/SPI1_MISO", 57 PB5 (io) "PB5/I2C1_SMBA/SPI3_MOSI/I2S3_SD/TIM3_CH2/SPI1_MOSI", 58 PB6 (io) "PB6/I2C1_SCL/TIM4_CH1/USART1_TX", 59 PB7 (io) "PB7/I2C1_SDA/TIM4_CH2/USART1_RX", 60 BOOT0 (in), 61 PB8 (io) "PB8/TIM4_CH3/SDIO_D4/I2C1_SCL/CAN_RX", 62 PB9 (io) "PB9/TIM4_CH4/SDIO_D5/I2C1_SDA/CAN_TX"
part B pins: 1 VBAT (power), 12 VSSA (power), 13 VDDA (power), 18 VSS_4 (power), 19 VDD_4 (power), 31 VSS_1 (power), 32 VDD_1 (power), 47 VSS_2 (power), 48 VDD_2 (power), 63 VSS_3 (power), 64 VDD_3 (power)

## STM32F103RCT6_SingleBlock
designator U?
ARM® Cortex®-M3 STM32F1 Microcontroller IC 32-Bit 72MHz 256KB (256K x 8) FLASH; Supplier 1: Digi-Key; Supplier Part Number 1: 497-8920-ND
footprint 64-LQFP
pins: 1 VBAT (power), 2 PC13-TAMPER-RTC (io) "PC13-TAMPER-RTC/PC13/TAMPER-RTC", 3 PC14-OSC32_IN (io) "PC14-OSC32_IN/PC14/OSC32_IN", 4 PC15-OSC32_OUT (io) "PC15-OSC32_OUT/PC15/OSC32_OUT", 5 PD0-OSC_IN (io) "PD0/OSC_IN/CAN_RX", 6 PD1-OSC_OUT (io) "PD1/OSC_OUT/CAN_TX", 7 NRST (io), 8 PC0 (io) "PC0/ADC123_IN10", 9 PC1 (io) "PC1/ADC123_IN11", 10 PC2 (io) "PC2/ADC123_IN12", 11 PC3 (io) "PC3/ADC123_IN13", 12 VSSA (power), 13 VDDA (power), 14 PA0-WKUP (io) "PA0-WKUP/PA0/WKUP/USART2_CTS/ADC123_IN0/TIM2_CH1_ETR/TIM5_CH1/TIM8_ETR", 15 PA1 (io) "PA1/USART2_RTS/ADC123_IN1/TIM5_CH2/TIM2_CH2", 16 PA2 (io) "PA2/USART2_TX/TIM5_CH3/ADC123_IN2/TIM2_CH3", 17 PA3 (io) "PA3/USART2_RX/TIM5_CH4/ADC123_IN3/TIM2_CH4", 18 VSS_4 (power), 19 VDD_4 (power), 20 PA4 (io) "PA4/SPI1_NSS/USART2_CK/DAC_OUT1/ADC12_IN4", 21 PA5 (io) "PA5/SPI1_SCK/DAC_OUT2/ADC12_IN5", 22 PA6 (io) "PA6/SPI1_MISO/TIM8_BKIN/ADC12_IN6/TIM3_CH1/TIM1_BKIN", 23 PA7 (io) "PA7/SPI1_MOSI/TIM8_CH1N/ADC12_IN7/TIM3_CH2/TIM1_CH1N", 24 PC4 (io) "PC4/ADC12_IN14", 25 PC5 (io) "PC5/ADC12_IN15", 26 PB0 (io) "PB0/ADC12_IN8/TIM3_CH3/TIM8_CH2N/TIM1_CH2N", 27 PB1 (io) "PB1/ADC12_IN9/TIM3_CH4/TIM8_CH3N/TIM1_CH3N", 28 PB2 (io) "PB2/BOOT1", 29 PB10 (io) "PB10/I2C2_SCL/USART3_TX/TIM2_CH3", 30 PB11 (io) "PB11/I2C2_SDA/USART3_RX/TIM2_CH4", 31 VSS_1 (power), 32 VDD_1 (power), 33 PB12 (io) "PB12/SPI2_NSS/I2S2_WS/I2C2_SMBA/USART3_CK/TIM1_BKIN", 34 PB13 (io) "PB13/SPI2_SCK/I2S2_CK/USART3_CTS/TIM1_CH1N", 35 PB14 (io) "PB14/SPI2_MISO/TIM1_CH2N/USART3_RTS", 36 PB15 (io) "PB15/SPI2_MOSI/I2S2_SD/TIM1_CH3N", 37 PC6 (io) "PC6/I2S2_MCK/TIM8_CH1/SDIO_D6/TIM3_CH1", 38 PC7 (io) "PC7/I2S3_MCK/TIM8_CH2/SDIO_D7/TIM3_CH2", 39 PC8 (io) "PC8/TIM8_CH3/SDIO_D0/TIM3_CH3", 40 PC9 (io) "PC9/TIM8_CH4/SDIO_D1/TIM3_CH4", 41 PA8 (io) "PA8/USART1_CK/TIM1_CH1/MCO", 42 PA9 (io) "PA9/USART1_TX/TIM1_CH2", 43 PA10 (io) "PA10/USART1_RX/TIM1_CH3", 44 PA11 (io) "PA11/USART1_CTS/USBDM/CAN_RX/TIM1_CH4", 45 PA12 (io) "PA12/USART1_RTS/USBDP/CAN_TX/TIM1_ETR", 46 PA13 (io) "PA13/JTMS-SWDIO", 47 VSS_2 (power), 48 VDD_2 (power), 49 PA14 (io) "PA14/JTCK-SWCLK", 50 PA15 (io) "PA15/JTDI/SPI3_NSS/I2S3_WS/TIM2_CH1_ETR/SPI1_NSS", 51 PC10 (io) "PC10/UART4_TX/SDIO_D2/USART3_TX", 52 PC11 (io) "PC11/UART4_RX/SDIO_D3/USART3_RX", 53 PC12 (io) "PC12/UART5_TX/SDIO_CK/USART3_CK", 54 PD2 (io) "PD2/TIM3_ETR/UART5_RX/SDIO_CMD", 55 PB3 (io) "PB3/JTDO/SPI3_SCK/I2S3_CK/TRACESWO/TIM2_CH2/SPI1_SCK", 56 PB4 (io) "PB4/NJTRST/SPI3_MISO/TIM3_CH1/SPI1_MISO", 57 PB5 (io) "PB5/I2C1_SMBA/SPI3_MOSI/I2S3_SD/TIM3_CH2/SPI1_MOSI", 58 PB6 (io) "PB6/I2C1_SCL/TIM4_CH1/USART1_TX", 59 PB7 (io) "PB7/I2C1_SDA/TIM4_CH2/USART1_RX", 60 BOOT0 (in), 61 PB8 (io) "PB8/TIM4_CH3/SDIO_D4/I2C1_SCL/CAN_RX", 62 PB9 (io) "PB9/TIM4_CH4/SDIO_D5/I2C1_SDA/CAN_TX", 63 VSS_3 (power), 64 VDD_3 (power)

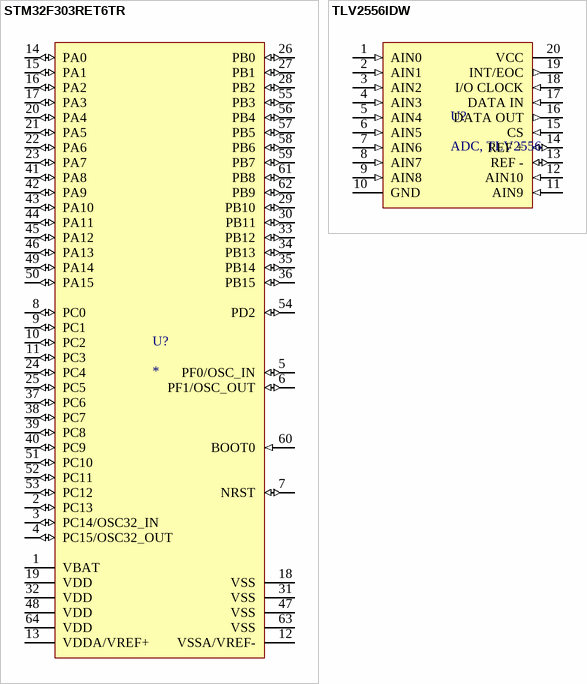
[diagram p1: symbols STM32F303RET6TR to TLV2556IDW]

## STM32F303RET6TR
designator U?
footprint 64-LQFP
pins: 1 VBAT (power) "Backup power supply", 2 PC13 (io) "PC13/TIM1_CH1N/RTC_TAMP1/RTC_TS/RTC_OUT/WKUP2", 3 PC14/OSC32_IN (io), 4 PC15/OSC32_OUT (io), 5 PF0/OSC_IN (io) "PF0/TIM1_CH3N/OSC_IN", 6 PF1/OSC_OUT (io), 7 NRST (io) "Device reset input/internal reset output (active low)", 8 PC0 (io) "PC0/EVENTOUT,TIM1_CH1/ADC12_IN6", 9 PC1 (io) "PC1/EVENTOUT,TIM1_CH2/ADC12_IN7", 10 PC2 (io) "PC2/EVENTOUT,TIM1_CH3/ADC12_IN8", 11 PC3 (io) "PC3/EVENTOUT,TIM1_CH4,TIM1_BKIN2/ADC12_IN9", 12 VSSA/VREF- (power) "Analog ground/Negative reference voltage", 13 VDDA/VREF+ (power) "Analog power supply/Positive reference voltage", 14 PA0 (io) "PA0/TIM2_CH1/TIM2_ETR,TSC_G1_IO1,USART2_CTS,EVENTOUT/ADC1_IN1,RTC_TAMP2/WKUP1", 15 PA1 (io) "PA1/TIM2_CH2,TSC_G1_IO2,USART2_RTS_DE,TIM15_CH1N,EVENTOUT/ADC1_IN2,RTC_REFIN", 16 PA2 (io) "PA2/TIM2_CH3,TSC_G1_IO3,USART2_TX,COMP2_OUT,TIM15_CH1,EVENTOUT/ADC1_IN3,COMP2_INM", 17 PA3 (io) "PA3/TIM2_CH4,TSC_G1_IO4,USART2_RX,TIM15_CH2,EVENTOUT/ADC1_IN4", 18 VSS (power) "Ground", 19 VDD (power) "Digital power supply", 20 PA4 (io) "PA4/TIM3_CH2,TSC_G2_IO1,SPI1_NSS,USART2_CK,EVENTOUT/ADC2_IN1,DAC1_OUT1,COMP2_INM4,COMP4_INM4,COMP6_INM4", 21 PA5 (io) "PA5/TIM2_CH1/TIM2_ETR,TSC_G2_IO2,SPI1_SCK,EVENTOUT/ADC2_IN2,DAC1_OUT2,OPAMP2_VINM", 22 PA6 (io) "PA6/TIM16_CH1,TIM3_CH1,TSC_G2_IO3,SPI1_MISO,TIM1_BKIN,EVENTOUT/ADC2_IN3,DAC2_OUT1,OPAMP2_VOUT", 23 PA7 (io) "PA7/TIM17_CH1,TIM3_CH2,TSC_G2_IO4,SPI1_MOSI,TIM1_CH1N,EVENTOUT/ADC2_IN4,COMP2_INP,OPAMP2_VINP", 24 PC4 (io) "PC4/EVENTOUT,TIM1_ETR,USART1_TX/ADC2_IN5", 25 PC5 (io) "PC5/EVENTOUT,TIM15_BKIN,TSC_G3_IO1,USART1_RX/ADC2_IN11,OPAMP2_VINM", 26 PB0 (io) "PB0/TIM3_CH3,TSC_G3_IO2,TIM1_CH2N,EVENTOUT/ADC1_IN11,COMP4_INP,OPAMP2_VINP", 27 PB1 (io) "PB1/TIM3_CH4,TSC_G3_IO3,TIM1_CH3N,COMP4_OUT,EVENTOUT/ADC1_IN12", 28 PB2 (io) "PB2/TSC_G3_IO4,EVENTOUT/ADC2_IN12,COMP4_INM", 29 PB10 (io) "PB10/TIM2_CH3,TSC_SYNC,USART3_TX,EVENTOUT", 30 PB11 (io) "PB11/TIM2_CH4,TSC_G6_IO1,USART3_RX,EVENTOUT/COMP6_INP", 31 VSS (power) "Digital ground", 32 VDD (power) "Digital power supply", 33 PB12 (io) "PB12/TSC_G6_IO2,TIM1_BKIN,USART3_CK,EVENTOUT/ADC2_IN13", 34 PB13 (io) "PB13/TSC_G6_IO3,TIM1_CH1N,USART3_CTS,EVENTOUT/ADC1_IN13", 35 PB14 (io) "PB14/TIM15_CH1,TSC_G6_IO4,TIM1_CH2N,USART3_RTS_DE,EVENTOUT/ADC2_IN14,OPAMP2_VINP", 36 PB15 (io) "PB15/TIM15_CH2,TIM15_CH1N,TIM1_CH3N,EVENTOUT/ADC2_IN15,COMP6_INM,RTC_REFIN", 37 PC6 (io) "PC6/EVENTOUT,TIM3_CH1,COMP6_OUT", 38 PC7 (io) "PC7/EVENTOUT,TIM3_CH2", 39 PC8 (io) "PC8/EVENTOUT,TIM3_CH3", 40 PC9 (io) "PC9/EVENTOUT,TIM3_CH4", 41 PA8 (io) "PA8/MCO,TIM1_CH1,USART1_CK,EVENTOUT", 42 PA9 (io) "PA9/TSC_G4_IO1,TIM1_CH2,USART1_TX,TIM15_BKIN,TIM2_CH3,EVENTOUT", 43 PA10 (io) "PA10/TIM17_BKIN,TSC_G4_IO2,TIM1_CH3,USART1_RX,COMP6_OUT,TIM2_CH4,EVENTOUT", 44 PA11 (io) "PA11/TIM1_CH1N,USART1_CTS,CAN_RX,TIM1_CH4,TIM1_BKIN2,EVENTOUT", 45 PA12 (io) "PA12/TIM16_CH1,TIM1_CH2N,USART1_RTS_DE,COMP2_OUT,CAN_TX,TIM1_ETR,EVENTOUT", 46 PA13 (io) "PA13/JTMS/SWDAT,TIM16_CH1N,TSC_G4_IO3,IR_OUT,USART3_CTS,EVENTOUT", 47 VSS (power) "Ground", 48 VDD (power) "Digital power supply", 49 PA14 (io) "PA14/JTCK/SWCLK,TSC_G4_IO4,I2C1_SDA,TIM1_BKIN,USART2_TX,EVENTOUT", 50 PA15 (io) "PA15/JTDI,TIM2_CH1/TIM2_ETR,TSC_SYNC,I2C1_SCL,SPI1_NSS,USART2_RX,TIM1_BKIN,EVENTOUT", 51 PC10 (io) "PC10/EVENTOUT,USART3_TX", 52 PC11 (io) "PC11/EVENTOUT,USART3_RX", 53 PC12 (io) "PC12/EVENTOUT,USART3_CK", 54 PD2 (io) "PD2/EVENTOUT,TIM3_ETR", 55 PB3 (io) "PB3/JTDO/TRACESWO,TIM2_CH2,TSC_G5_IO1,SPI1_SCK,USART2_TX,TIM3_ETR,EVENTOUT", 56 PB4 (io) "PB4/NJTRST,TIM16_CH1,TIM3_CH1,TSC_G5_IO2,SPI1_MISO,USART2_RX,TIM17_BKIN,EVENTOUT", 57 PB5 (io) "PB5/TIM16_BKIN,TIM3_CH2,I2C1_SMBA,SPI1_MOSI,USART2_CK,TIM17_CH1,EVENTOUT", 58 PB6 (io) "PB6/TIM16_CH1N,TSC_G5_IO3,I2C1_SCL,USART1_TX,EVENTOUT", 59 PB7 (io) "PB7/TIM17_CH1N,TSC_G5_IO4,I2C1_SDA,USART1_RX,TIM3_CH4,EVENTOUT", 60 BOOT0 (in) "Boot memory selection", 61 PB8 (io) "PB8/TIM16_CH1,TSC_SYNC,I2C1_SCL,USART3_RX,CAN_RX,TIM1_BKIN,EVENTOUT", 62 PB9 (io) "PB9/TIM17_CH1,I2C1_SDA,IR_OUT,USART3_TX,COMP2_OUT,CAN_TX,EVENTOUT", 63 VSS (power) "Ground", 64 VDD (power) "Digital power supply"

## TLV2556IDW
designator U?, comment ADC, TLV2556
IC SERIAL ADC 12-BIT 5V 20-SOIC; Manufacturer: Texas Instruments; Manufacturer Part Number: TLV2556IDW; Nominal Supply Current: 3mA; Min Supply Voltage: 2.7V; Max Supply Voltage: 5.5V; Number of Channels: 11; Max Power Dissipation: 2.43mW; Interface: SPI; Number of Bits: 12; Sampling Rate: 200KS/s; Number of Converters: 1; Resolution: 12b; Polarity: Unipolar; Differential Nonlinearity: 1LSB; Supply Type: Single; Supplier 1: Digi-Key; Supplier Part Number 1: 296-12502-5-ND; Stock 1: 5611; Pricing 1: 1 = 10.04000, 10 = 9.06900, 25 = 8.64680, 100 = 7.50800, 500 = 6.53790, 1000 = 5.69430 (USD); RoHS: Yes; Case/Package: SOIC; Number of Pins: 20; Min Operating Temperature: -40°C; Max Operating Temperature: 85°C; Package Quantity: 25; Packaging: Rail/Tube; Number of Elements: 1; Number of A/D Converters: 1; Number of Analog Inputs: 11; Conversion Rate: 200KS/s; Integral Nonlinearity (INL): 1LSB; Number of Inputs: 11; Max Supply Voltage (DC): 5.5V; Min Supply Voltage (DC): 2.7V; Power Consumption: 2.43mW; REACH SVHC: No SVHC; Lead Free: Lead Free; ComponentLink1URL: http://www.ti.com/lit/ds/symlink/tlv2556.pdf?src-supplier=Digi-Key; ComponentLink1Description: http://www.ti.com/lit/ds/symlink/tlv2556.pdf?src-supplier=Digi-Key; ComponentLink2URL: http://www.ti.com/general/docs/lit/getliterature.tsp?genericPartNumber=TLV2556&&fileType=pdf&src-supplier=Avnet; ComponentLink2Description: http://www.ti.com/general/docs/lit/getliterature.tsp?genericPartNumber=TLV2556&&fileType=pdf&src-supplier=Avnet; ComponentLink3URL: http://datasheet.iiic.cc/texas_instruments/TLV2556IDW.pdf?src-supplier=IIIC; ComponentLink3Description: http://datasheet.iiic.cc/texas_instruments/TLV2556IDW.pdf?src-supplier=IIIC; ComponentLink4URL: http://www.produktinfo.conrad.com/datenblaetter/1100000-1199999/001186451-da-01-en-IC_SERIAL_ADC_12__TLV2556IDW_SOIC_20_TID.pdf?src-supplier=Conrad; ComponentLink4Description: http://www.produktinfo.conrad.com/datenblaetter/1100000-1199999/001186451-da-01-en-IC_SERIAL_ADC_12__TLV2556IDW_SOIC_20_TID.pdf?src-supplier=Conrad; Category: Integrated Circuits (ICs)
footprint DW20-L
pins: 1 AIN0 (in), 2 AIN1 (in), 3 AIN2 (in), 4 AIN3 (in), 5 AIN4 (in), 6 AIN5 (in), 7 AIN6 (in), 8 AIN7 (in), 9 AIN8 (in), 10 GND (power), 11 AIN9 (in), 12 AIN10 (in), 13 REF - (io), 14 REF + (io), 15 CS (in), 16 DATA OUT (out), 17 DATA IN (in), 18 I/O CLOCK (in), 19 INT/EOC (out), 20 VCC (power)